# EAGLE library part CONECTOR1INCH (library Projeto_Nicolau)
Conector DIP10 comum.
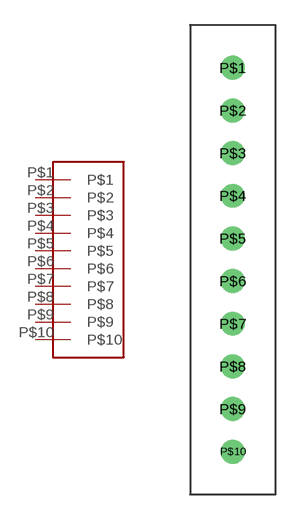
[diagram p6: symbol with the pads of CONECTOR1INCH; footprint CONECTOR1INCH]

Designator prefix CON

## CONECTOR1INCH  [CONECTOR1INCH]
P$1  P$1
P$2  P$2
P$3  P$3
P$4  P$4
P$5  P$5
P$6  P$6
P$7  P$7
P$8  P$8
P$9  P$9
P$10  P$10

## Footprint CONECTOR1INCH (pad centres in mm)
drill 0.5 pad 1.422 round: P$1 0,10.16; P$2 0,7.62; P$3 0,5.08; P$4 0,2.54; P$5 0,0; P$6 0,-2.54; P$7 0,-5.08; P$8 0,-7.62; P$9 0,-10.16; P$10 0,-12.7